# EAGLE library part BTS5090-1EJA (library switches_ben)
Infineon BST5090-1EJA Smart High-Side Power Switch Datasheet <http://www.mouser.com/ds/2/196/Infineon-BTS5090-DS-v02_02-en-596813.pdf>
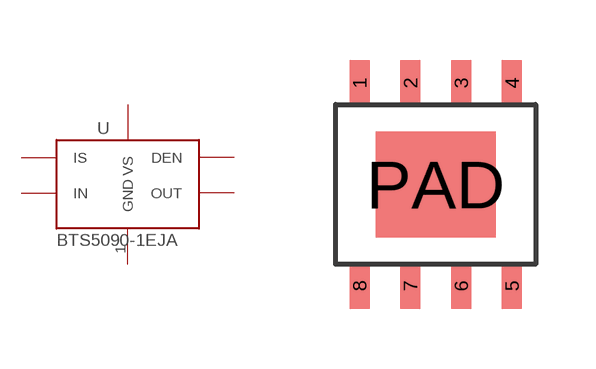
[diagram p0: symbol with the pads of SOIC8+PAD; footprint SOIC8+PAD]

Designator prefix -

## BTS5090-1EJA  [SOIC8+PAD]
1  GND
2  IN
3  DEN
4  IS
6  OUT
7  OUT
8  OUT
PAD  VS

## Footprint SOIC8+PAD (pad centres in mm)
smd 0.5 x 1.15: 1 -1.9,2.54; 2 -0.63,2.54; 3 0.64,2.54; 4 1.91,2.54; 5 1.91,-2.54; 6 0.64,-2.54; 7 -0.63,-2.54; 8 -1.9,-2.54
smd 3 x 2.65: PAD 0,0